# Altium footprint library DIODE.PCBLIB: 59 footprints (part 2 of 4)
Each footprint in its own frame and in the unit in brackets; x right, y up, seen from the top. Pads: shape width x height; smd on the part's side, far side on the other; paste and mask are expansions set on the pad; w line width, h text height; cw(c..) or ccw(c..) is an arc to the next point about the centre after c.
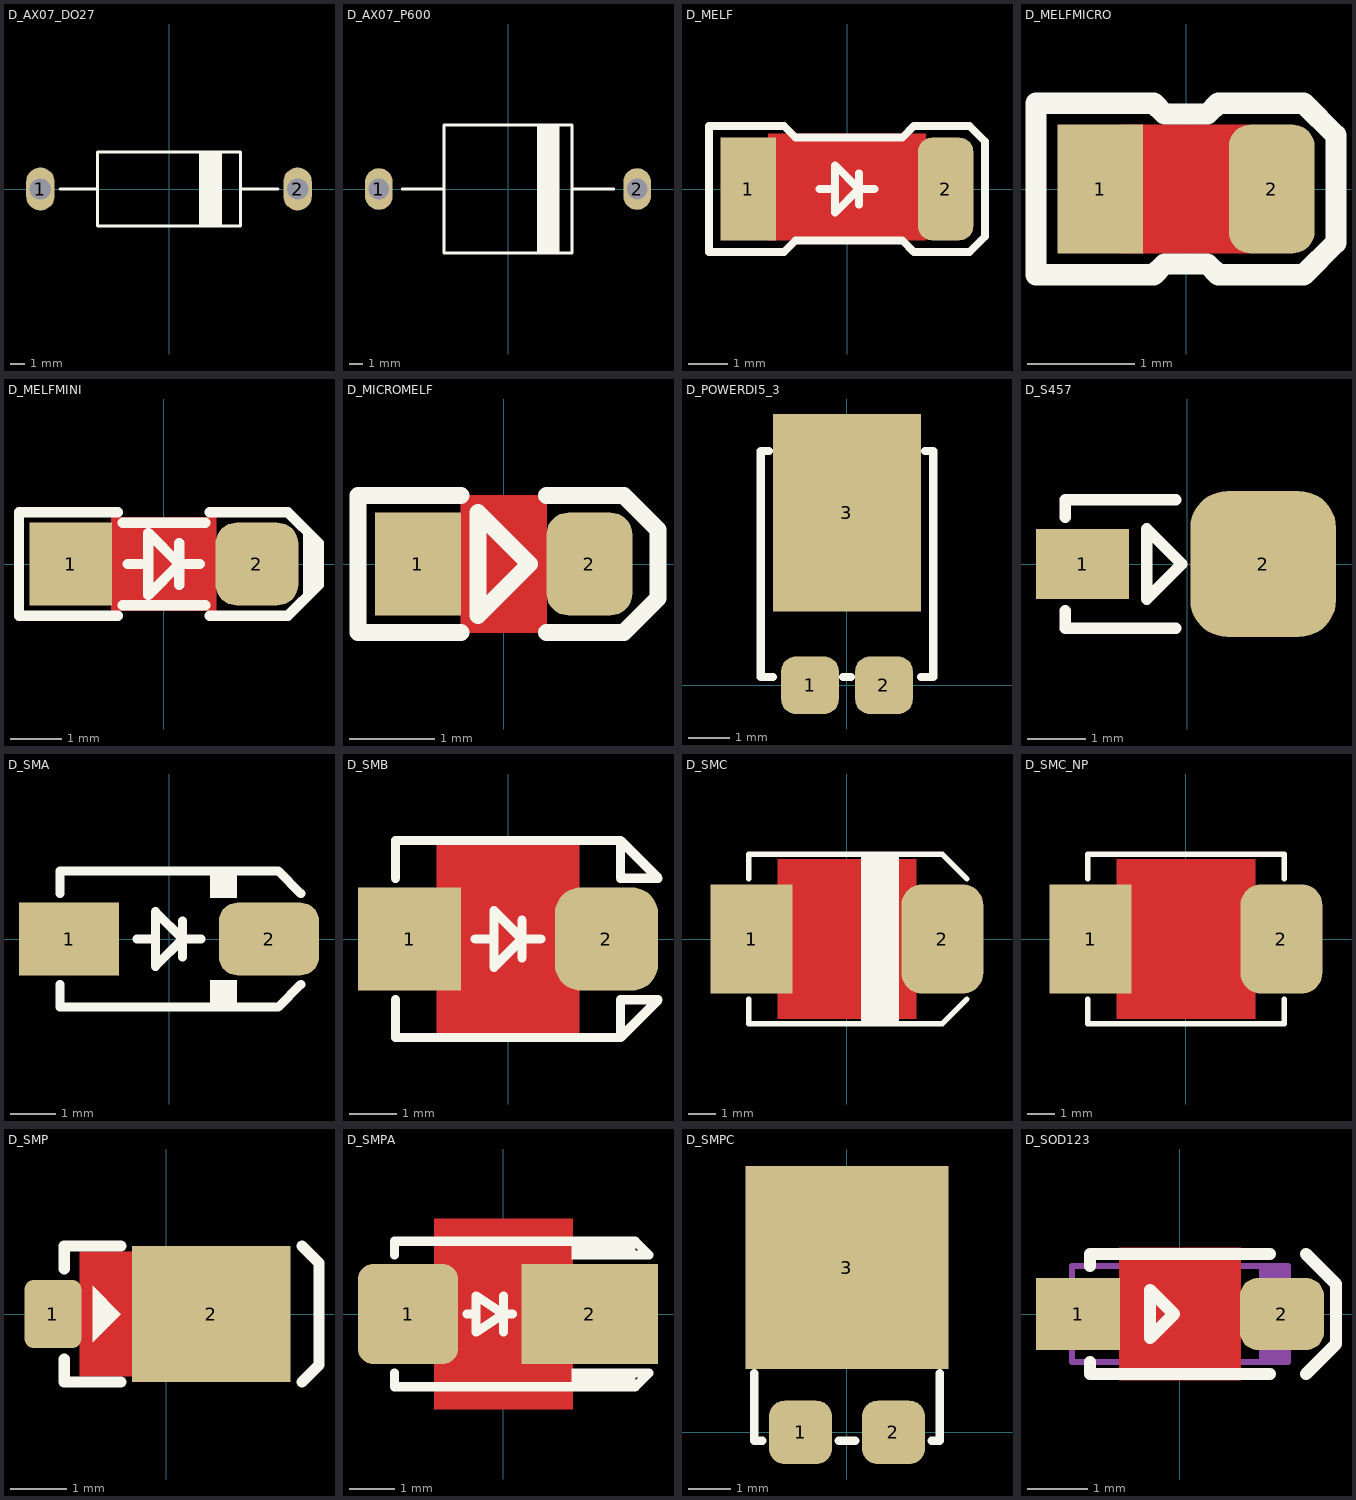
[diagram p1: the footprints below, top view; thin cyan lines are the x and y axes]

## D_AX07_DO27 [mm] "DIODE 0.7 INCH SPACING DO-201AD, DO-27"
pads (2):
  oval 2x3 hole 1.5: 1(-9,0) 2(9,0)
Top Overlay:
  rectangle: 2.1,-2.6 3.7,2.6
  lines w0.2: -7.62,0 -5,0 ; 5,0 7.62,0 ; -5,-2.6 5,-2.6 5,2.6 -5,2.6 -5,-2.6
3D body "Schottky Barier Rectifier Diodes 1N5822 (pcb).step": height 5.01, standoff -3.6, extent -9.49,-2.5 9.49,2.52

## D_AX07_P600 [mm] "DIODE 0.7 INCH SPACING, P600, 9mm width"
pads (2):
  oval 2x3 hole 1.5: 1(-9.3,0) 2(9.3,0)
Top Overlay:
  rectangle: 2.1,-4.6 3.7,4.6
  lines w0.2: -7.62,0 -4.6,0 ; 4.6,0 7.62,0 ; -4.6,-4.6 4.6,-4.6 4.6,4.6 -4.6,4.6 -4.6,-4.6
3D body "User Library-P600-2.STEP": height 9.13, standoff -5.11, extent -9.92,-4.55 9.9,4.55

## D_MELF [mm] "MELF, SOD-106, DO-213AB LL-41, 4.8X2.4mm"
height 1.6
pads (2):
  rect 1.4x2.6 smd paste-0.1: 1(-2.5,0)
  rrect50% 1.4x2.6 smd paste-0.1: 2(2.5,0)
Top Layer:
  pour cut-out: -2,1.4 2,1.4 2,-1.3 -2,-1.3
Top Overlay:
  lines w0.2: -0.7,0 -0.3,0 ; 0.3,-0.4 0.3,0.4 ; 0.7,0 0.3,0 ; 0.3,0 -0.3,0.6 -0.3,-0.6 0.3,0 ; -3.5,-1.6 -3.5,1.6 -1.6,1.6 -1.3,1.3 1.4,1.3 1.7,1.6 3.1,1.6 3.5,1.2 3.5,-1.2 3.1,-1.6 1.7,-1.6 1.4,-1.3 -1.3,-1.3 -1.6,-1.6 -3.5,-1.6
3D body "MELF5025.step": height 2.5, standoff 0, extent -2.5,-1.25 2.5,1.25

## D_MELFMICRO [mm] "MICRO-MELF 0102, 2X1.2mm"
height 1.6
pads (2):
  rect 0.8x1.2 smd paste-0.1 mask+0.05: 1(-0.8,0)
  rrect50% 0.8x1.2 smd paste-0.1 mask+0.05: 2(0.8,0)
Top Layer:
  pour cut-out: -0.6,0.6 0.6,0.6 0.6,-0.6 -0.6,-0.6
Top Overlay:
  lines w0.2: -1.4,-0.8 -1.4,0.8 -0.3,0.8 -0.2,0.7 0.2,0.7 0.3,0.8 1.1,0.8 1.4,0.5 1.4,-0.5 1.1,-0.8 0.3,-0.8 0.2,-0.7 -0.2,-0.7 -0.3,-0.8 -1.4,-0.8
3D body "MICROMELF.stp": height 1.2, standoff 0, extent -1,-0.6 1,0.6

## D_MELFMINI [mm] "MINI-MELF, SOD-80, DO-213AA, LL-34, 3.6X1.6mm, LL4148"
height 1.6
pads (2):
  rect 1.6x1.6 smd paste-0.1: 1(-1.8,0)
  rrect50% 1.6x1.6 smd paste-0.1: 2(1.8,0)
Top Layer:
  pour cut-out: -1.016,0.9 1.016,0.9 1.016,-0.9 -1.016,-0.9
Top Overlay:
  region: 2.7,0.7 2.7,-0.7 3,-0.4 3,0.4
  lines w0.2: -0.889,-1 -2.8,-1 -2.8,1 -0.889,1 ; -0.8,-0.8 0.8,-0.8 ; -0.8,0.8 0.8,0.8 ; -0.7,0 -0.3,0 ; 0.3,-0.4 0.3,0.4 ; 0.7,0 0.3,0 ; 0.889,-1 2.4,-1 3,-0.4 3,0.4 2.4,1 0.889,1 ; 0.3,0 -0.3,0.6 -0.3,-0.6 0.3,0
3D body "User Library-MiniMelf-2.step": height 1.6, standoff 0, extent -1.85,-0.794 1.85,0.794

## D_MICROMELF [mm] "DIODE0805, SOD323 (PHILIPS), SC-76 (JEITA), DL-35, MicroMELF"
height 1.4
pads (2):
  rect 1x1.2 smd mask+0.075: 1(-1,0)
  rrect50% 1x1.2 smd mask+0.075: 2(1,0)
Top Layer:
  pour cut-out: -0.5,0.8 0.5,0.8 0.5,-0.8 -0.5,-0.8
Top Overlay:
  lines w0.2: -0.5,-0.8 -1.7,-0.8 -1.7,0.8 -0.5,0.8 ; 0.5,-0.8 1.4,-0.8 1.8,-0.4 1.8,0.4 1.4,0.8 0.5,0.8 ; -0.3,-0.6 -0.3,0.6 0.3,0 -0.3,-0.6
3D body "MICROMELF.stp": height 1.2, standoff 0, extent -1,-0.6 1,0.6

## D_POWERDI5_3 [mm] "POWERDI5, Body 5.5x4.0mm"
pads (3):
  rrect50% 1.4x1.4 smd paste-0.114: 1(-0.9,0) 2(0.9,0)
  rect 3.6x4.8 smd: 3(0,4.2)
Top Overlay:
  lines w0.2: -1.9,5.7 -2.1,5.7 -2.1,0.2 -1.8,0.2 ; -0.1,0.2 0.1,0.2 ; 1.8,0.2 2.1,0.2 2.1,5.7 1.9,5.7
3D body "User Library-PowerDI-5.STEP": height 1.17, standoff 0.02, extent -2.025,-0.3 2.025,6.3

## D_S457 [mm] "CASE457-04 Diode, 2-Leads, Body 2x2mm"
height 2.4
pads (2):
  rect 1.6x1.2 smd paste-0.1: 1(-1.8,0)
  rrect50% 2.5x2.5 smd paste-0.2: 2(1.3,0)
Top Overlay:
  lines w0.2: -2.1,-0.8 -2.1,-1.1 -0.2,-1.1 ; -2.1,0.8 -2.1,1.1 -0.2,1.1 ; -0.7,-0.6 -0.7,0.6 -0.1,0 -0.7,-0.6
3D body "User Library-Case 457-4.STEP": height 1.18, standoff 0.02, extent -1.95,-1.025 1.95,1.025

## D_SMA [mm] "SMA Molded Diode, 2-Leads, Body 4.3x2.7mm, SOD-128"
height 2.4
pads (2):
  rect 2.2x1.6 smd paste-0.1: 1(-2.2,0)
  rrect50% 2.2x1.6 smd paste-0.1: 2(2.2,0)
Top Overlay:
  rectangle: 0.9,-1.5 1.5,-0.9
  rectangle: 0.9,0.9 1.5,1.5
  lines w0.2: -2.4,-1 -2.4,-1.5 2.4,-1.5 2.9,-1 ; -2.4,1 -2.4,1.5 2.4,1.5 2.9,1 ; -0.7,0 -0.3,0 ; 0.3,-0.4 0.3,0.4 ; 0.7,0 0.3,0 ; 0.3,0 -0.3,0.6 -0.3,-0.6 0.3,0
3D body "User Library-DIOM5528X26.step": height 2.6, standoff 0.03, extent -2.75,-1.4 2.75,1.4

## D_SMB [mm] "SMB Molded Diode, 2-Leads, Body 4.3x3.5mm"
pads (2):
  rect 2.2x2.2 smd paste-0.1: 1(-2.1,0)
  rrect50% 2.2x2.2 smd paste-0.1: 2(2.1,0)
Top Layer:
  pour cut-out: -1.524,2.1 -1.524,-2.1 1.524,-2.1 1.524,2.1
Top Overlay:
  lines w0.2: -2.4,-1.3 -2.4,-2.1 2.4,-2.1 ; -2.4,1.3 -2.4,2.1 2.4,2.1 ; -0.7,0 -0.3,0 ; 0.3,-0.4 0.3,0.4 ; 0.7,0 0.3,0 ; 0.3,0 -0.3,0.6 -0.3,-0.6 0.3,0 ; 2.4,-2.1 2.4,-1.3 3.2,-1.3 2.4,-2.1 ; 2.4,2.1 3.2,1.3 2.4,1.3 2.4,2.1
3D body "User Library-DIOM5539X24.step": height 2.45, standoff 0.03, extent -2.75,-1.95 2.75,1.95

## D_SMC [mm] "SMC, Molded Diode, 7.0x6.0mm"
height 3
pads (2):
  rect 3x4 smd paste-3: 1(-3.5,0)
  rrect50% 3x4 smd paste-3: 2(3.5,0)
Top Layer:
  pour cut-out: -2.54,2.921 -2.54,-2.921 2.54,-2.921 2.54,2.921
Top Overlay:
  rectangle: 0.508,-3.048 1.905,3.048
  lines w0.2: -3.6,-2.2 -3.6,-3.1 3.5,-3.1 4.4,-2.2 ; -3.6,2.2 -3.6,3.1 3.5,3.1 4.4,2.2
Top Paste:
  rectangle: -4.7,0.8 -3.7,1.8
  rectangle: -3.3,0.8 -2.3,1.8
  rectangle: -3.3,-0.5 -2.3,0.5
  rectangle: -4.7,-0.5 -3.7,0.5
  rectangle: -4.7,-1.8 -3.7,-0.8
  rectangle: -3.3,-1.8 -2.3,-0.8
  region: 3.3,-0.8 2.3,-0.8 2.3,-1.8 3.3,-1.8
  region: 4.7,-0.8 3.7,-0.8 3.7,-1.8 4.7,-1.8
  region: 4.7,0.5 3.7,0.5 3.7,-0.5 4.7,-0.5
  region: 3.3,0.5 2.3,0.5 2.3,-0.5 3.3,-0.5
  region: 3.3,1.8 2.3,1.8 2.3,0.8 3.3,0.8
  region: 4.7,1.8 3.7,1.8 3.7,0.8 4.7,0.8
Mechanical 13:
  lines w0.2: -2,0 2,0 ; 0,-2 0,2
3D body "User Library-DIOM8261X24.step": height 2.4, standoff 0.03, extent -4.065,-3.05 4.065,3.05

## D_SMC_NP [mm] "SMC, Molded Diode, 7.0x6.0mm, no Polar"
height 3
pads (2):
  rect 3x4 smd paste-3: 1(-3.5,0)
  rrect50% 3x4 smd paste-3: 2(3.5,0)
Top Layer:
  pour cut-out: -2.54,2.921 -2.54,-2.921 2.54,-2.921 2.54,2.921
Top Overlay:
  lines w0.2: -3.6,-2.2 -3.6,-3.1 3.6,-3.1 3.6,-2.2 ; -3.6,2.2 -3.6,3.1 3.6,3.1 3.6,2.2
Top Paste:
  region: 4.7,1.8 3.7,1.8 3.7,0.8 4.7,0.8
  region: 3.3,1.8 2.3,1.8 2.3,0.8 3.3,0.8
  region: 3.3,0.5 2.3,0.5 2.3,-0.5 3.3,-0.5
  region: 4.7,0.5 3.7,0.5 3.7,-0.5 4.7,-0.5
  region: 4.7,-0.8 3.7,-0.8 3.7,-1.8 4.7,-1.8
  region: 3.3,-0.8 2.3,-0.8 2.3,-1.8 3.3,-1.8
  rectangle: -3.3,-1.8 -2.3,-0.8
  rectangle: -4.7,-1.8 -3.7,-0.8
  rectangle: -4.7,-0.5 -3.7,0.5
  rectangle: -3.3,-0.5 -2.3,0.5
  rectangle: -3.3,0.8 -2.3,1.8
  rectangle: -4.7,0.8 -3.7,1.8
Mechanical 13:
  lines w0.2: -2,0 2,0 ; 0,-2 0,2
3D body "User Library-DIOM8261X24.step": height 2.4, standoff 0.03, extent -4.065,-3.05 4.065,3.05

## D_SMP [mm] "SMP DO-220AA, 2-Leads, Body 3.6x2.1mm"
height 1.2
pads (2):
  rrect30% 1x1.2 smd paste-0.1: 1(-2,0)
  rect 2.8x2.4 smd paste-0.2: 2(0.8,0)
Top Layer:
  pour cut-out: -1.524,1.1 -1.524,-1.1 1.524,-1.1 1.524,1.1
Top Overlay:
  region: -0.8,0 -1.3,0.5 -1.3,-0.5
  lines w0.2: -1.8,-0.8 -1.8,-1.2 -0.8,-1.2 ; -1.8,0.8 -1.8,1.2 -0.8,1.2 ; 2.4,-1.2 2.7,-0.9 2.7,0.9 2.4,1.2
3D body "DO-220AA_SMP.step": height 1.16, standoff 0, extent -2.231,-1.09 2.105,1.09

## D_SMPA [mm] "SMPA DO-221BC, 2-Leads, Body 5.2x2.6mm"
pads (2):
  rrect30% 2.2x2.2 smd paste-0.1: 1(-2.1,0)
  rect 3x2.2 smd paste-0.1: 2(1.9,0)
Top Layer:
  pour cut-out: -1.524,2.1 -1.524,-2.1 1.524,-2.1 1.524,2.1
Top Overlay:
  rectangle: 1.5,1.2 2.9,1.6
  rectangle: 1.5,-1.6 2.9,-1.2
  lines w0.2: -2.4,-1.3 -2.4,-1.6 2.9,-1.6 3.2,-1.3 2.4,-1.3 2.4,-1.6 ; -2.4,1.3 -2.4,1.6 2.9,1.6 3.2,1.3 2.4,1.3 2.4,1.6 ; -0.8,0 -0.6,0 ; 0,-0.4 0,0.4 ; 0.2,0 0,0 ; 0,0 -0.6,0.4 -0.6,-0.4 0,0
3D body "User Library-DO-221AC.step": height 1.2, standoff 0, extent -2.8,-1.475 2.8,1.475

## D_SMPC [mm] "SMPC TO-277A, Body 6.1x4.6mm, POWERDI5"
pads (3):
  rrect50% 1.5x1.5 smd: 1(-1.1,0) 2(1.1,0)
  rect 4.8x4.8 smd paste-3: 3(0,3.9)
Top Overlay:
  lines w0.2: -2.2,1.4 -2.2,-0.2 -2,-0.2 ; -0.2,-0.2 0.2,-0.2 ; 2,-0.2 2.2,-0.2 2.2,1.4
Top Paste:
  region: 1.2,5.5 1.2,6.2 0.2,6.2 0.2,5.5
  region: 2.4,5.5 2.4,6.2 1.6,6.2 1.6,5.5
  region: 1.2,5.1 0.2,5.1 0.2,4.1 1.2,4.1
  region: 2.4,5.1 1.6,5.1 1.6,4.1 2.4,4.1
  region: 2.4,3.7 1.6,3.7 1.6,2.7 2.4,2.7
  region: 1.6,2.3 1.6,1.6 2.4,1.6 2.4,2.3
  region: 1.2,3.7 0.2,3.7 0.2,2.7 1.2,2.7
  region: 0.2,2.3 0.2,1.6 1.2,1.6 1.2,2.3
  region: -1.2,2.3 -1.2,1.6 -0.2,1.6 -0.2,2.3
  rectangle: -1.2,2.7 -0.2,3.7
  region: -2.4,2.3 -2.4,1.6 -1.6,1.6 -1.6,2.3
  rectangle: -2.4,2.7 -1.6,3.7
  rectangle: -2.4,4.1 -1.6,5.1
  rectangle: -1.2,4.1 -0.2,5.1
  region: -1.6,5.5 -1.6,6.2 -2.4,6.2 -2.4,5.5
  region: -0.2,5.5 -0.2,6.2 -1.2,6.2 -1.2,5.5
3D body "User Library-TO-277A(SMPC).step": height 1.2, standoff 0, extent -2.375,-0.35 2.375,6.3

## D_SOD123 [mm] "SOD123, 1206D"
pads (2):
  rect 1.4x1.2 smd paste-0.1 mask+0.1: 1(-1.7,0)
  rrect50% 1.4x1.2 smd paste-0.1 mask+0.1: 2(1.7,0)
Top Layer:
  pour cut-out: -1.016,1.1 -1.016,-1.1 1.016,-1.1 1.016,1.1
Top Overlay:
  lines w0.2: -1.5,-0.8 -1.5,-1 1.5,-1 ; -1.5,0.8 -1.5,1 1.5,1 ; 2.1,-1 2.6,-0.5 2.6,0.5 2.1,1 ; -0.5,-0.4 -0.5,0.4 -0.1,0 -0.5,-0.4
Mechanical 13:
  rectangle: 1.316,-0.8 1.8,0.8
  lines w0.1: -1.8,-0.8 1.8,-0.8 1.8,0.8 -1.8,0.8 -1.8,-0.8
3D body "User Library-SOD123-1.step": height 1.18, standoff 0, extent -1.95,-0.9 1.95,0.9